# Altium schematic symbol library Timer_RTC.SchLib: 39 symbols
Pins are listed as number, name and electrical type; pins without a type are passive.

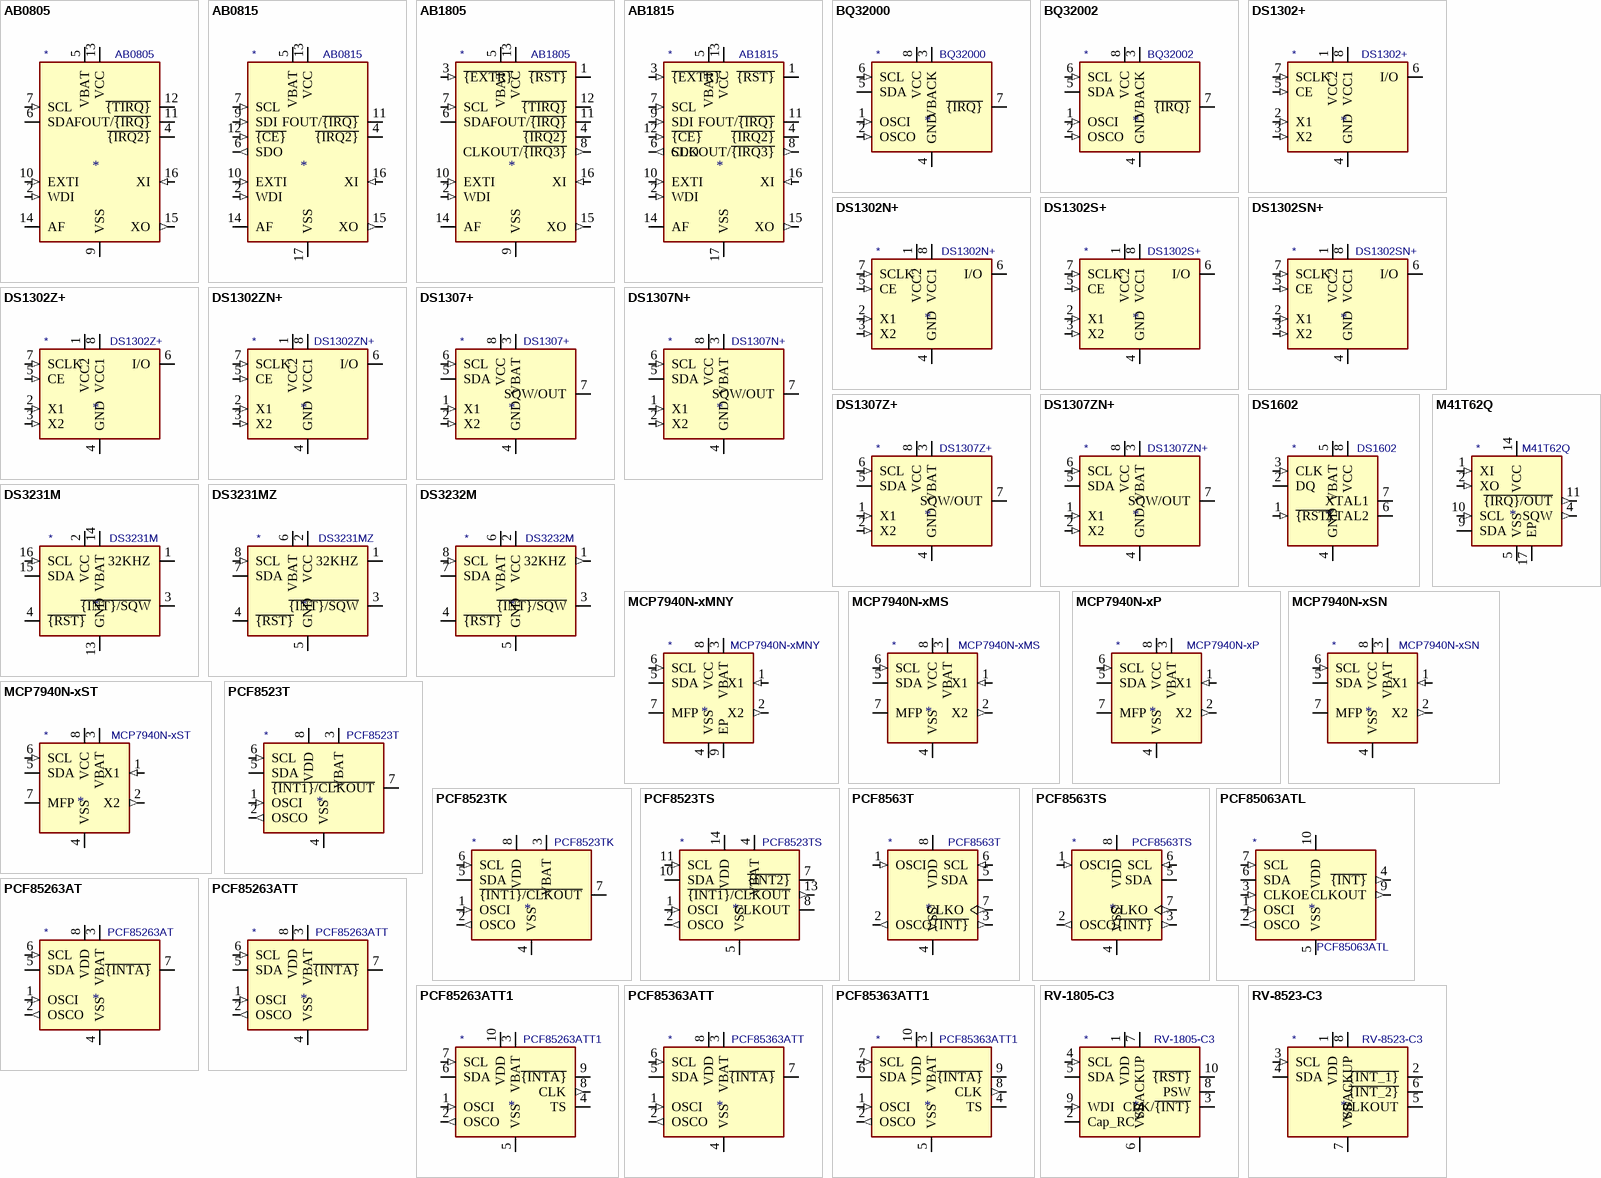
[diagram p0: symbols AB0805 to RV-8523-C3]

## AB0805
designator *  value AB0805
ki_keywords: rtc; ki_description: Real-Time Clock, I2C Interface, 3 GPO, QFN-16; ki_fp_filters: VQFN*1EP*3x3mm*P0.5mm*; Footprint: Package_DFN_QFN:VQFN-16-1EP_3x3mm_P0.5mm_EP1.8x1.8mm; Supplier: https://abracon.com/Precisiontiming/AB08X5-RTC.PDF
footprint VQFN-16-1EP_3x3mm_P0.5mm_EP1.8x1.8mm
pins: 1 NC (in) hidden, 2 WDI (in), 3 NC (in) hidden, 4 ~{{IRQ2}} (oc), 5 VBAT (power), 6 SDA (io), 7 SCL (in), 8 NC (in) hidden, 9 VSS (power), 10 EXTI (in), 11 FOUT/~{{IRQ}} (oc), 12 ~{{TIRQ}} (oc), 13 VCC (power), 14 AF, 15 XO (out), 16 XI (in), 17 VSS hidden

## AB0815
designator *  value AB0815
ki_keywords: rtc; ki_description: Real-Time Clock, SPI Interface, 2 GPO, QFN-16; ki_fp_filters: VQFN*1EP*3x3mm*P0.5mm*; Footprint: Package_DFN_QFN:VQFN-16-1EP_3x3mm_P0.5mm_EP1.8x1.8mm; Supplier: https://abracon.com/Precisiontiming/AB08X5-RTC.PDF
footprint VQFN-16-1EP_3x3mm_P0.5mm_EP1.8x1.8mm
pins: 1 NC (in) hidden, 2 WDI (in), 3 NC (in) hidden, 4 ~{{IRQ2}} (oc), 5 VBAT (power), 6 SDO (out), 7 SCL (in), 8 NC (in) hidden, 9 SDI (in), 10 EXTI (in), 11 FOUT/~{{IRQ}} (oc), 12 ~{{CE}} (in), 13 VCC (power), 14 AF, 15 XO (out), 16 XI (in), 17 VSS (power)

## AB1805
designator *  value AB1805
ki_keywords: rtc; ki_description: Real-Time Clock, I2C Interface, 4 GPO, QFN-16; ki_fp_filters: VQFN*1EP*3x3mm*P0.5mm*; Footprint: Package_DFN_QFN:VQFN-16-1EP_3x3mm_P0.5mm_EP1.8x1.8mm; Supplier: https://abracon.com/Precisiontiming/AB18X5-RTC.pdf
footprint VQFN-16-1EP_3x3mm_P0.5mm_EP1.8x1.8mm
pins: 1 ~{{RST}} (oc), 2 WDI (in), 3 ~{{EXTR}} (in), 4 ~{{IRQ2}} (oc), 5 VBAT (power), 6 SDA (io), 7 SCL (in), 8 CLKOUT/~{{IRQ3}} (out), 9 VSS (power), 10 EXTI (in), 11 FOUT/~{{IRQ}} (oc), 12 ~{{TIRQ}} (oc), 13 VCC (power), 14 AF, 15 XO (out), 16 XI (in), 17 VSS hidden

## AB1815
designator *  value AB1815
ki_keywords: rtc; ki_description: Real-Time Clock, SPI Interface, 3 GPO, QFN-16; ki_fp_filters: VQFN*1EP*3x3mm*P0.5mm*; Footprint: Package_DFN_QFN:VQFN-16-1EP_3x3mm_P0.5mm_EP1.8x1.8mm; Supplier: https://abracon.com/Precisiontiming/AB18X5-RTC.pdf
footprint VQFN-16-1EP_3x3mm_P0.5mm_EP1.8x1.8mm
pins: 1 ~{{RST}} (oc), 2 WDI (in), 3 ~{{EXTR}} (in), 4 ~{{IRQ2}} (oc), 5 VBAT (power), 6 SDO (out), 7 SCL (in), 8 CLKOUT/~{{IRQ3}} (out), 9 SDI (in), 10 EXTI (in), 11 FOUT/~{{IRQ}} (oc), 12 ~{{CE}} (in), 13 VCC (power), 14 AF, 15 XO (out), 16 XI (in), 17 VSS (power)

## BQ32000
designator *  value BQ32000
ki_keywords: RTC, I2C Timekeeping Chip; ki_description: Serial, I2C Real-time clock, Trickle charger, 3V to 3.6V VCC, -40°C to +85°C, SOIC-8; ki_fp_filters: SOIC*3.9x4.9mm?P1.27mm*; Footprint: Package_SO:SOIC-8_3.9x4.9mm_P1.27mm; Supplier: http://www.ti.com/lit/ds/symlink/bq32000.pdf
footprint SOIC-8_3.9x4.9mm_P1.27mm
pins: 1 OSCI (in), 2 OSCO (in), 3 VBACK (power), 4 GND (power), 5 SDA (io), 6 SCL (in), 7 ~{{IRQ}} (oc), 8 VCC (power)

## BQ32002
designator *  value BQ32002
ki_keywords: RTC, I2C Timekeeping Chip; ki_description: Serial, I2C Real-time clock, 3V to 3.6V VCC, -40°C to +85°C, SOIC-8; ki_fp_filters: SOIC*3.9x4.9mm?P1.27mm*; Footprint: Package_SO:SOIC-8_3.9x4.9mm_P1.27mm; Supplier: http://www.ti.com/lit/ds/symlink/bq32002.pdf
footprint SOIC-8_3.9x4.9mm_P1.27mm
pins: 1 OSCI (in), 2 OSCO (in), 3 VBACK (power), 4 GND (power), 5 SDA (io), 6 SCL (in), 7 ~{{IRQ}} (oc), 8 VCC (power)

## DS1302+
designator *  value DS1302+
ki_keywords: RTC, Trickle-Charge Timekeeping Chip; ki_description: Trickle-Charge Timekeeping Chip, 2.0V to 5.5V VCC, 0°C to +70°C, DIP-8; ki_fp_filters: DIP*W7.62mm*; Footprint: Package_DIP:DIP-8_W7.62mm; Supplier: https://datasheets.maximintegrated.com/en/ds/DS1302.pdf
footprint DIP-8_W7.62mm
pins: 1 VCC2 (power), 2 X1 (in), 3 X2 (in), 4 GND (power), 5 CE (in), 6 I/O (io), 7 SCLK (in), 8 VCC1 (power)

## DS1302N+
designator *  value DS1302N+
ki_keywords: RTC, Trickle-Charge Timekeeping Chip; ki_description: Trickle-Charge Timekeeping Chip, 2.0V to 5.5V VCC, -40°C to +85°C, DIP-8; ki_fp_filters: DIP*W7.62mm*; Footprint: Package_DIP:DIP-8_W7.62mm; Supplier: https://datasheets.maximintegrated.com/en/ds/DS1302.pdf
footprint DIP-8_W7.62mm
pins: 1 VCC2 (power), 2 X1 (in), 3 X2 (in), 4 GND (power), 5 CE (in), 6 I/O (io), 7 SCLK (in), 8 VCC1 (power)

## DS1302S+
designator *  value DS1302S+
ki_keywords: RTC, Trickle-Charge Timekeeping Chip; ki_description: Trickle-Charge Timekeeping Chip, 2.0V to 5.5V VCC, 0°C to +70°C, SO-8; ki_fp_filters: SO*5.3x6.2mm?P1.27mm*; Footprint: Package_SO:SO-8_5.3x6.2mm_P1.27mm; Supplier: https://datasheets.maximintegrated.com/en/ds/DS1302.pdf
footprint SO-8_5.3x6.2mm_P1.27mm
pins: 1 VCC2 (power), 2 X1 (in), 3 X2 (in), 4 GND (power), 5 CE (in), 6 I/O (io), 7 SCLK (in), 8 VCC1 (power)

## DS1302SN+
designator *  value DS1302SN+
ki_keywords: RTC, Trickle-Charge Timekeeping Chip; ki_description: Trickle-Charge Timekeeping Chip, 2.0V to 5.5V VCC, -40°C to +85°C, SO-8; ki_fp_filters: SO*5.3x6.2mm?P1.27mm*; Footprint: Package_SO:SO-8_5.3x6.2mm_P1.27mm; Supplier: https://datasheets.maximintegrated.com/en/ds/DS1302.pdf
footprint SO-8_5.3x6.2mm_P1.27mm
pins: 1 VCC2 (power), 2 X1 (in), 3 X2 (in), 4 GND (power), 5 CE (in), 6 I/O (io), 7 SCLK (in), 8 VCC1 (power)

## DS1302Z+
designator *  value DS1302Z+
ki_keywords: RTC, Trickle-Charge Timekeeping Chip; ki_description: Trickle-Charge Timekeeping Chip, 2.0V to 5.5V VCC, 0°C to +70°C, SOIC-8; ki_fp_filters: SOIC*3.9x4.9mm?P1.27mm*; Footprint: Package_SO:SOIC-8_3.9x4.9mm_P1.27mm; Supplier: https://datasheets.maximintegrated.com/en/ds/DS1302.pdf
footprint SOIC-8_3.9x4.9mm_P1.27mm
pins: 1 VCC2 (power), 2 X1 (in), 3 X2 (in), 4 GND (power), 5 CE (in), 6 I/O (io), 7 SCLK (in), 8 VCC1 (power)

## DS1302ZN+
designator *  value DS1302ZN+
ki_keywords: RTC, Trickle-Charge Timekeeping Chip; ki_description: Trickle-Charge Timekeeping Chip, 2.0V to 5.5V VCC, -40°C to +85°C, SOIC-8; ki_fp_filters: SOIC*3.9x4.9mm?P1.27mm*; Footprint: Package_SO:SOIC-8_3.9x4.9mm_P1.27mm; Supplier: https://datasheets.maximintegrated.com/en/ds/DS1302.pdf
footprint SOIC-8_3.9x4.9mm_P1.27mm
pins: 1 VCC2 (power), 2 X1 (in), 3 X2 (in), 4 GND (power), 5 CE (in), 6 I/O (io), 7 SCLK (in), 8 VCC1 (power)

## DS1307+
designator *  value DS1307+
ki_keywords: RTC, Trickle-Charge Timekeeping Chip; ki_description: 64 x 8, Serial, I2C Real-time clock, 4.5V to 5.5V VCC, 0°C to +70°C, DIP-8; ki_fp_filters: DIP*W7.62mm*; Footprint: Package_DIP:DIP-8_W7.62mm; Supplier: https://datasheets.maximintegrated.com/en/ds/DS1307.pdf
footprint DIP-8_W7.62mm
pins: 1 X1 (in), 2 X2 (in), 3 VBAT (power), 4 GND (power), 5 SDA (io), 6 SCL (in), 7 SQW/OUT (oc), 8 VCC (power)

## DS1307N+
designator *  value DS1307N+
ki_keywords: RTC, Trickle-Charge Timekeeping Chip; ki_description: 64 x 8, Serial, I2C Real-time clock, 4.5V to 5.5V VCC, -40°C to +85°C, DIP-8; ki_fp_filters: DIP*W7.62mm*; Footprint: Package_DIP:DIP-8_W7.62mm; Supplier: https://datasheets.maximintegrated.com/en/ds/DS1307.pdf
footprint DIP-8_W7.62mm
pins: 1 X1 (in), 2 X2 (in), 3 VBAT (power), 4 GND (power), 5 SDA (io), 6 SCL (in), 7 SQW/OUT (oc), 8 VCC (power)

## DS1307Z+
designator *  value DS1307Z+
ki_keywords: RTC, I2C Timekeeping Chip; ki_description: 64 x 8, Serial, I2C Real-time clock, 4.5V to 5.5V VCC, 0°C to +70°C, SOIC-8; ki_fp_filters: SOIC*3.9x4.9mm?P1.27mm*; Footprint: Package_SO:SOIC-8_3.9x4.9mm_P1.27mm; Supplier: https://datasheets.maximintegrated.com/en/ds/DS1307.pdf
footprint SOIC-8_3.9x4.9mm_P1.27mm
pins: 1 X1 (in), 2 X2 (in), 3 VBAT (power), 4 GND (power), 5 SDA (io), 6 SCL (in), 7 SQW/OUT (oc), 8 VCC (power)

## DS1307ZN+
designator *  value DS1307ZN+
ki_keywords: RTC, I2C Timekeeping Chip; ki_description: 64 x 8, Serial, I2C Real-time clock, 4.5V to 5.5V VCC, -40°C to +85°C, SOIC-8; ki_fp_filters: SOIC*3.9x4.9mm?P1.27mm*; Footprint: Package_SO:SOIC-8_3.9x4.9mm_P1.27mm; Supplier: https://datasheets.maximintegrated.com/en/ds/DS1307.pdf
footprint SOIC-8_3.9x4.9mm_P1.27mm
pins: 1 X1 (in), 2 X2 (in), 3 VBAT (power), 4 GND (power), 5 SDA (io), 6 SCL (in), 7 SQW/OUT (oc), 8 VCC (power)

## DS1602
designator *  value DS1602
ki_keywords: Elapsed Time Counter; ki_description: Elapsed Time Counter, -40 to +85 C, 2.5V to 5.5V VCC, DIP-8, SO-8; ki_fp_filters: DIP*W7.62mm* SO*5.3x6.2mm?P1.27mm*; Supplier: https://datasheets.maximintegrated.com/en/ds/DS1602.pdf
pins: 1 ~{{RST}} (in), 2 DQ (io), 3 CLK (in), 4 GND (power), 5 VBAT (power), 6 XTAL2, 7 XTAL1, 8 VCC (power)

## DS3231M
designator *  value DS3231M
ki_keywords: RTC TCXO Realtime Time Clock Crystal Oscillator I2C; ki_description: Extremely Accurate I2C-Integrated RTC/TCXO/Crystal SOIC-16; ki_fp_filters: SOIC*7.5x10.3mm*P1.27mm*; Footprint: Package_SO:SOIC-16W_7.5x10.3mm_P1.27mm; Supplier: http://datasheets.maximintegrated.com/en/ds/DS3231.pdf
footprint SOIC-16W_7.5x10.3mm_P1.27mm
pins: 1 32KHZ (oc), 2 VCC (power), 3 ~{{INT}/SQW} (oc), 4 ~{{RST}} (io), 5 GND hidden, 6 GND hidden, 7 GND hidden, 8 GND hidden, 9 GND hidden, 10 GND hidden, 11 GND hidden, 12 GND hidden, 13 GND (power), 14 VBAT (power), 15 SDA (io), 16 SCL (in)

## DS3231MZ
designator *  value DS3231MZ
ki_keywords: RTC TCXO Realtime Time Clock MEMS I2C; ki_description: ±5ppm, I2C Real-Time Clock SOIC-8; ki_fp_filters: SOIC*3.9x4.9mm*P1.27mm*; Footprint: Package_SO:SOIC-8_3.9x4.9mm_P1.27mm; Supplier: http://datasheets.maximintegrated.com/en/ds/DS3231M.pdf
footprint SOIC-8_3.9x4.9mm_P1.27mm
pins: 1 32KHZ (oc), 2 VCC (power), 3 ~{{INT}/SQW} (oc), 4 ~{{RST}} (io), 5 GND (power), 6 VBAT (power), 7 SDA (io), 8 SCL (in)

## DS3232M
designator *  value DS3232M
ki_keywords: RTC TCXO Realtime Time Clock MEMS SRAM I2C; ki_description: ±5ppm, I2C Real-Time Clock with SRAM SOIC-8; ki_fp_filters: SOIC*3.9x4.9mm*P1.27mm*; Footprint: Package_SO:SOIC-8_3.9x4.9mm_P1.27mm; Supplier: http://datasheets.maximintegrated.com/en/ds/DS3232M.pdf
footprint SOIC-8_3.9x4.9mm_P1.27mm
pins: 1 32KHZ (out), 2 VCC (power), 3 ~{{INT}/SQW} (oc), 4 ~{{RST}} (io), 5 GND (power), 6 VBAT (power), 7 SDA (io), 8 SCL (in)

## M41T62Q
designator *  value M41T62Q
ki_keywords: I2C RTC Alarm interrupt; ki_description: Low-power I2C RTC with alarm interrupt QFN; ki_fp_filters: QFN*16*1EP*3x3mm*P0.5mm*EP1.8x1.8mm*; Footprint: Package_DFN_QFN:QFN-16-1EP_3x3mm_P0.5mm_EP1.8x1.8mm; Supplier: http://www.st.com/resource/en/datasheet/m41t62.pdf
footprint QFN-16-1EP_3x3mm_P0.5mm_EP1.8x1.8mm
pins: 1 XI (in), 2 XO (in), 4 SQW (out), 5 VSS (power), 9 SDA (io), 10 SCL (in), 11 ~{{IRQ}/OUT} (out), 14 VCC (power), 17 EP

## MCP7940N-xMNY
designator *  value MCP7940N-xMNY
ki_keywords: realtime clock RTC; ki_description: Real-Time Clock, I2C, Battery Backup, TDFN-8; ki_fp_filters: DFN*3x2mm*P0.5mm*EP1.36x1.46mm*; Footprint: Package_DFN_QFN:DFN-8-1EP_3x2mm_P0.5mm_EP1.36x1.46mm; Supplier: http://ww1.microchip.com/downloads/en/DeviceDoc/20005010F.pdf
footprint DFN-8-1EP_3x2mm_P0.5mm_EP1.36x1.46mm
pins: 1 X1 (in), 2 X2 (out), 3 VBAT (power), 4 VSS (power), 5 SDA (io), 6 SCL (in), 7 MFP (oc), 8 VCC (power), 9 EP (power)

## MCP7940N-xMS
designator *  value MCP7940N-xMS
ki_keywords: realtime clock RTC; ki_description: Real-Time Clock, I2C, Battery Backup, MSOP-8; ki_fp_filters: SOIC*3.9x4.9mm*P1.27mm* TSSOP*4.4x3mm*P0.65mm* MSOP*3x3mm*P0.65mm* DIP*W7.62mm*; Supplier: http://ww1.microchip.com/downloads/en/DeviceDoc/20005010F.pdf
pins: 1 X1 (in), 2 X2 (out), 3 VBAT (power), 4 VSS (power), 5 SDA (io), 6 SCL (in), 7 MFP (oc), 8 VCC (power)

## MCP7940N-xP
designator *  value MCP7940N-xP
ki_keywords: realtime clock RTC; ki_description: Real-Time Clock, I2C, Battery Backup, DIP-8; ki_fp_filters: SOIC*3.9x4.9mm*P1.27mm* TSSOP*4.4x3mm*P0.65mm* MSOP*3x3mm*P0.65mm* DIP*W7.62mm*; Supplier: http://ww1.microchip.com/downloads/en/DeviceDoc/20005010F.pdf
pins: 1 X1 (in), 2 X2 (out), 3 VBAT (power), 4 VSS (power), 5 SDA (io), 6 SCL (in), 7 MFP (oc), 8 VCC (power)

## MCP7940N-xSN
designator *  value MCP7940N-xSN
ki_keywords: realtime clock RTC; ki_description: Real-Time Clock, I2C, Battery Backup, SOIC-8; ki_fp_filters: SOIC*3.9x4.9mm*P1.27mm* TSSOP*4.4x3mm*P0.65mm* MSOP*3x3mm*P0.65mm* DIP*W7.62mm*; Supplier: http://ww1.microchip.com/downloads/en/DeviceDoc/20005010F.pdf
pins: 1 X1 (in), 2 X2 (out), 3 VBAT (power), 4 VSS (power), 5 SDA (io), 6 SCL (in), 7 MFP (oc), 8 VCC (power)

## MCP7940N-xST
designator *  value MCP7940N-xST
ki_keywords: realtime clock RTC; ki_description: Real-Time Clock, I2C, Battery Backup, TSSOP-8; ki_fp_filters: SOIC*3.9x4.9mm*P1.27mm* TSSOP*4.4x3mm*P0.65mm* MSOP*3x3mm*P0.65mm* DIP*W7.62mm*; Supplier: http://ww1.microchip.com/downloads/en/DeviceDoc/20005010F.pdf
pins: 1 X1 (in), 2 X2 (out), 3 VBAT (power), 4 VSS (power), 5 SDA (io), 6 SCL (in), 7 MFP (oc), 8 VCC (power)

## PCF8523T
designator *  value PCF8523T
ki_keywords: I2C RTC Clock Calendar; ki_description: Realtime Clock/Calendar I2C Interface, SOIC-8; ki_fp_filters: SOIC*3.9x4.9mm*P1.27mm*; Footprint: Package_SO:SOIC-8_3.9x4.9mm_P1.27mm; Supplier: https://www.nxp.com/docs/en/data-sheet/PCF8523.pdf
footprint SOIC-8_3.9x4.9mm_P1.27mm
pins: 1 OSCI (in), 2 OSCO (out), 3 VBAT (power), 4 VSS (power), 5 SDA (io), 6 SCL (in), 7 ~{{INT1}/CLKOUT} (oc), 8 VDD (power)

## PCF8523TK
designator *  value PCF8523TK
ki_keywords: I2C RTC Clock Calendar; ki_description: Realtime Clock/Calendar I2C Interface, HVSON-8; ki_fp_filters: HVSON*1EP*4x4mm*P0.8mm*; Footprint: Package_SON:HVSON-8-1EP_4x4mm_P0.8mm_EP2.2x3.1mm; Supplier: https://www.nxp.com/docs/en/data-sheet/PCF8523.pdf
footprint HVSON-8-1EP_4x4mm_P0.8mm_EP2.2x3.1mm
pins: 1 OSCI (in), 2 OSCO (out), 3 VBAT (power), 4 VSS (power), 5 SDA (io), 6 SCL (in), 7 ~{{INT1}/CLKOUT} (oc), 8 VDD (power), 9 VSS hidden

## PCF8523TS
designator *  value PCF8523TS
ki_keywords: I2C RTC Clock Calendar; ki_description: Realtime Clock/Calendar I2C Interface, TSSOP-14; ki_fp_filters: TSSOP*4.4x5mm*P0.65mm*; Footprint: Package_SO:TSSOP-14_4.4x5mm_P0.65mm; Supplier: https://www.nxp.com/docs/en/data-sheet/PCF8523.pdf
footprint TSSOP-14_4.4x5mm_P0.65mm
pins: 1 OSCI (in), 2 OSCO (out), 3 NC (in) hidden, 4 VBAT (power), 5 VSS (power), 6 NC (in) hidden, 7 ~{{INT2}} (oc), 8 CLKOUT (oc), 9 NC (in) hidden, 10 SDA (io), 11 SCL (in), 12 NC (in) hidden, 13 ~{{INT1}/CLKOUT} (out), 14 VDD (power)

## PCF8563T
designator *  value PCF8563T
ki_keywords: I2C RTC Clock Calendar; ki_description: Realtime Clock/Calendar I2C Interface, SOIC-8; ki_fp_filters: SOIC*3.9x4.9mm*P1.27mm*; Footprint: Package_SO:SOIC-8_3.9x4.9mm_P1.27mm; Supplier: https://www.nxp.com/docs/en/data-sheet/PCF8563.pdf
footprint SOIC-8_3.9x4.9mm_P1.27mm
pins: 1 OSCI (in), 2 OSCO (out), 3 ~{{INT}} (out), 4 VSS (power), 5 SDA (io), 6 SCL (in), 7 CLKO (out), 8 VDD (power)

## PCF8563TS
designator *  value PCF8563TS
ki_keywords: I2C RTC Clock Calendar; ki_description: Realtime Clock/Calendar I2C Interface, TSSOP-8; ki_fp_filters: MSOP*3x3mm*P0.65mm*; Footprint: Package_SO:MSOP-8_3x3mm_P0.65mm; Supplier: https://www.nxp.com/docs/en/data-sheet/PCF8563.pdf
footprint MSOP-8_3x3mm_P0.65mm
pins: 1 OSCI (in), 2 OSCO (out), 3 ~{{INT}} (out), 4 VSS (power), 5 SDA (io), 6 SCL (in), 7 CLKO (out), 8 VDD (power)

## PCF85063ATL
designator *  value PCF85063ATL
ki_keywords: RTC I2C; ki_description: I2C Real-Time Clock Calendar w/ Alarm, DFN-10; ki_fp_filters: DFN*2.6x2.6mm*P0.5mm*; Footprint: Package_DFN_QFN:DFN-10-1EP_2.6x2.6mm_P0.5mm_EP1.3x2.2mm; Supplier: https://www.nxp.com/docs/en/data-sheet/PCF85063A.pdf
footprint DFN-10-1EP_2.6x2.6mm_P0.5mm_EP1.3x2.2mm
pins: 1 OSCI (in), 2 OSCO (out), 3 CLKOE (in), 4 ~{{INT}} (out), 5 VSS (power), 6 SDA (io), 7 SCL (in), 8 NC (in) hidden, 9 CLKOUT (out), 10 VDD (power)

## PCF85263AT
designator *  value PCF85263AT
ki_keywords: RTC battery I2C; ki_description: Tiny Real-Time Clock/calendar with alarm function, battery switch-over, time stamp input, I2C bus, SO-8; ki_fp_filters: SOIC*3.9x4.9mm*P1.27mm*; Footprint: Package_SO:SOIC-8_3.9x4.9mm_P1.27mm; Supplier: https://www.nxp.com/docs/en/data-sheet/PCF85263A.pdf
footprint SOIC-8_3.9x4.9mm_P1.27mm
pins: 1 OSCI (in), 2 OSCO (out), 3 VBAT (power), 4 VSS (power), 5 SDA (io), 6 SCL (in), 7 ~{{INTA}} (oc), 8 VDD (power)

## PCF85263ATT
designator *  value PCF85263ATT
ki_keywords: RTC battery I2C; ki_description: Tiny Real-Time Clock/calendar with alarm function, battery switch-over, time stamp input, I2C bus, TSSOP-8; ki_fp_filters: TSSOP*3x3mm*P0.65mm*; Footprint: Package_SO:TSSOP-8_3x3mm_P0.65mm; Supplier: https://www.nxp.com/docs/en/data-sheet/PCF85263A.pdf
footprint TSSOP-8_3x3mm_P0.65mm
pins: 1 OSCI (in), 2 OSCO (out), 3 VBAT (power), 4 VSS (power), 5 SDA (io), 6 SCL (in), 7 ~{{INTA}} (oc), 8 VDD (power)

## PCF85263ATT1
designator *  value PCF85263ATT1
ki_keywords: RTC battery I2C; ki_description: Tiny Real-Time Clock/calendar with alarm function, battery switch-over, time stamp input, I2C bus, TSSOP-10; ki_fp_filters: TSSOP*3x3mm*P0.5mm*; Footprint: Package_SO:TSSOP-10_3x3mm_P0.5mm; Supplier: https://www.nxp.com/docs/en/data-sheet/PCF85263A.pdf
footprint TSSOP-10_3x3mm_P0.5mm
pins: 1 OSCI (in), 2 OSCO (out), 3 VBAT (power), 4 TS (io), 5 VSS (power), 6 SDA (io), 7 SCL (in), 8 CLK (out), 9 ~{{INTA}} (oc), 10 VDD (power)

## PCF85363ATT
designator *  value PCF85363ATT
ki_keywords: RTC RAM battery I2C; ki_description: Tiny Real-Time Clock/calendar with 64 byte RAM, alarm function, battery switch-over, time stamp input, I2C bus, TSSOP-8; ki_fp_filters: TSSOP*3x3mm*P0.65mm*; Footprint: Package_SO:TSSOP-8_3x3mm_P0.65mm; Supplier: https://www.nxp.com/docs/en/data-sheet/PCF85363A.pdf
footprint TSSOP-8_3x3mm_P0.65mm
pins: 1 OSCI (in), 2 OSCO (out), 3 VBAT (power), 4 VSS (power), 5 SDA (io), 6 SCL (in), 7 ~{{INTA}} (oc), 8 VDD (power)

## PCF85363ATT1
designator *  value PCF85363ATT1
ki_keywords: RTC RAM battery I2C; ki_description: Tiny Real-Time Clock/calendar with 64 byte RAM, alarm function, battery switch-over, time stamp input, I2C bus, TSSOP-10; ki_fp_filters: TSSOP*3x3mm*P0.5mm*; Footprint: Package_SO:TSSOP-10_3x3mm_P0.5mm; Supplier: https://www.nxp.com/docs/en/data-sheet/PCF85363A.pdf
footprint TSSOP-10_3x3mm_P0.5mm
pins: 1 OSCI (in), 2 OSCO (out), 3 VBAT (power), 4 TS (io), 5 VSS (power), 6 SDA (io), 7 SCL (in), 8 CLK (out), 9 ~{{INTA}} (oc), 10 VDD (power)

## RV-1805-C3
designator *  value RV-1805-C3
ki_keywords: Low Power RTC I2C; ki_description: Realtime Clock/Calendar I2C Interface, Extreme Low Power, MicroCrystal C3; ki_fp_filters: RTC*SMD*MicroCrystal*C3*2.5x3.7mm*; Footprint: Package_SON:RTC_SMD_MicroCrystal_C3_2.5x3.7mm; Supplier: https://www.microcrystal.com/fileadmin/Media/Products/RTC/Datasheet/RV-1805-C3.pdf
footprint RTC_SMD_MicroCrystal_C3_2.5x3.7mm
pins: 1 VDD (power), 2 Cap_RC, 3 CLK/~{{INT}} (oc), 4 SCL (in), 5 SDA (io), 6 VSS (power), 7 VBACKUP (power), 8 PSW (oc), 9 WDI (in), 10 ~{{RST}} (oc)

## RV-8523-C3
designator *  value RV-8523-C3
ki_keywords: Low Power RTC I2C; ki_description: Realtime Clock/Calendar I2C Interface, Low Power, 1.2 V to 5.5 V, MicroCrystal C3; ki_fp_filters: RTC*SMD*MicroCrystal*C3*2.5x3.7mm*; Footprint: Package_SON:RTC_SMD_MicroCrystal_C3_2.5x3.7mm; Supplier: https://www.microcrystal.com/fileadmin/Media/Products/RTC/Datasheet/RV-8523-C3.pdf
footprint RTC_SMD_MicroCrystal_C3_2.5x3.7mm
pins: 1 VDD (power), 2 ~{{INT_1}} (oc), 3 SCL (in), 4 SDA (io), 5 CLKOUT (oc), 6 ~{{INT_2}} (oc), 7 VSS (power), 8 VBACKUP (power), 9 NC (in) hidden, 10 NC (in) hidden